# EAGLE library part MAX31725MTA+ (library NR_IC)
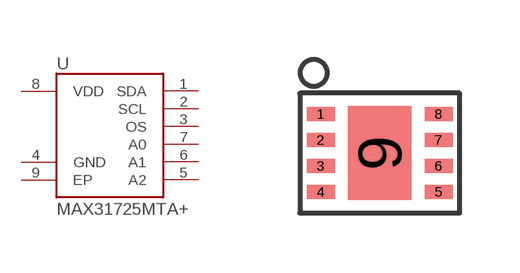
[diagram p2: symbol with the pads of DFN-8; footprint DFN-8]

Designator prefix U

## MAX31725MTA+  [DFN-8]
1  SDA
2  SCL
3  OS
4  GND  pwr
5  A2
6  A1
7  A0
8  VDD  pwr
9  EP  pwr

## Footprint DFN-8 (pad centres in mm)
smd 0.7 x 0.35: 1 -1.475,0.975; 2 -1.475,0.325; 3 -1.475,-0.325; 4 -1.475,-0.975; 5 1.475,-0.975; 6 1.475,-0.325; 7 1.475,0.325; 8 1.475,0.975
smd 1.58 x 2.35: 9 0,0